# Altium schematic symbol library header_20_tp1_sct.SchLib: 1 symbol
Pins are listed as number, name and electrical type; pins without a type are passive.

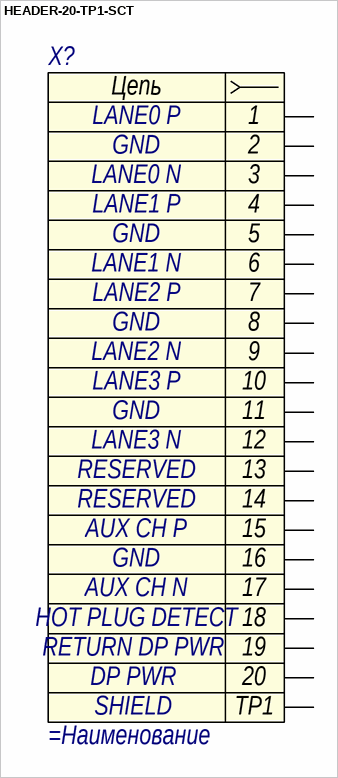
[diagram p0: symbol HEADER-20-TP1-SCT]

## HEADER-20-TP1-SCT
designator X?
=Описание; Contact_1: LANE0 P; Contact_2: GND; Contact_3: LANE0 N; Contact_4: LANE1 P; Contact_6: LANE1 N; Contact_7: LANE2 P; Contact_9: LANE2 N; Contact_10: LANE3 P; Contact_12: LANE3 N; Contact_13: RESERVED; Contact_15: AUX CH P; Contact_17: AUX CH N; Contact_18: HOT PLUG DETECT; Contact_19: RETURN DP PWR; TP1: SHIELD; Contact_20: DP PWR; Contact_5: GND; Contact_8: GND; Contact_11: GND; Contact_14: RESERVED; Contact_16: GND
pins: 1, 2, 3, 4, 5, 6, 7, 8, 9, 10, 11, 12, 13, 14, 15, 16, 17, 18, 19, 20, TP1
text: Цепь